# Altium footprint library Parts.PcbLib: 3 footprints
Each footprint in its own frame and in the unit in brackets; x right, y up, seen from the top. Pads: shape width x height; smd on the part's side, far side on the other; paste and mask are expansions set on the pad; w line width, h text height; cw(c..) or ccw(c..) is an arc to the next point about the centre after c.
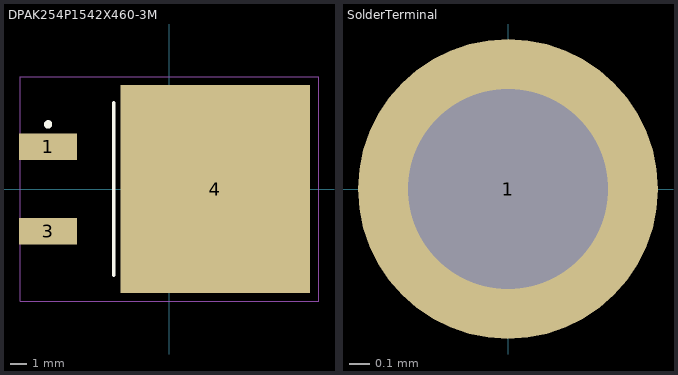
[diagram p0: the footprints below, top view; thin cyan lines are the x and y axes]

## DPAK254P1542X460-3M [mm] "D2-PAK, 3-Pads, Body 7,78x8,56mm (max), IPC Low Density"
height 4.6
pads (3):
  rect 3.5x1.6 smd: 1(-7.3,2.54) 3(-7.3,-2.54)
  rect 11.4x12.5 smd: 4(2.75,0)
Top Overlay:
  circle w0.25: c-7.3,3.89 r0.125
  lines w0.2: -3.35,-5.2 -3.35,5.2
Mechanical 13:
  lines w0.1: -2.85,-5.2 -2.85,5.2 6.5,5.2 6.5,-5.2 -2.85,-5.2
Mechanical 15:
  lines w0.05: -8.975,-6.75 -8.975,6.75 8.975,6.75 8.975,-6.75 -8.975,-6.75
  lines w0.1: -0.5,0 0.5,0 ; 0,-0.5 0,0.5
3D body "DPAK254P1542X460-3M.step": height 4.63, standoff 0, extent -6.69,-5.2 8.735,5.2

## PCBComponent_1 [mm]

## SolderTerminal [mm]
pads (1):
  round 1.5 hole 1: 1(0,0)